# EAGLE library part RJ22?* (library relay-mod)
SMD RELAYS WITH 5GHz CAPABILITIES NAiS Source: http://www.mew-europe.com/.. en_ds_61313_0000.pdf
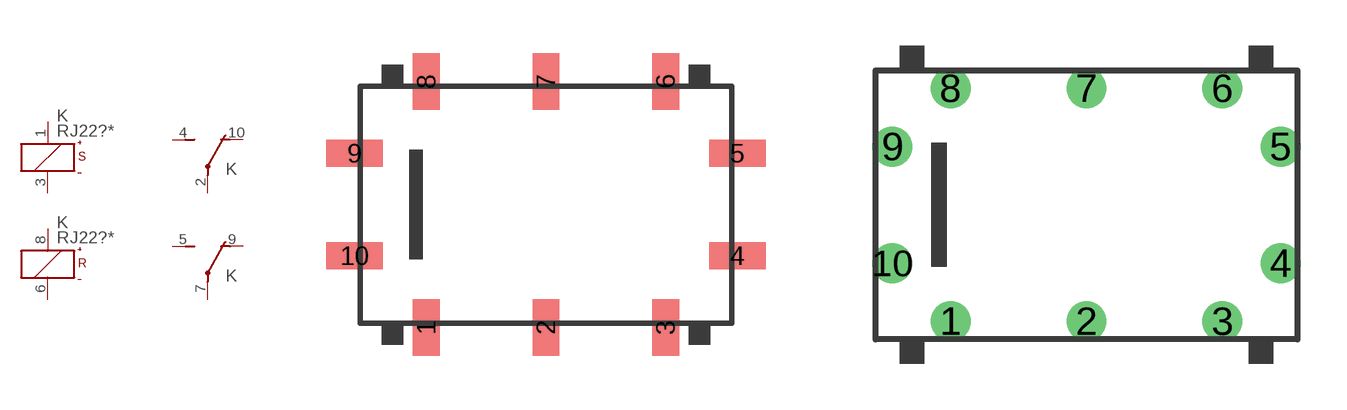
[diagram p104: symbol with the pads of RJ-SMD; footprints RJ-SMD, RJ]

Designator prefix K; gates S=K+-S R=K+-R 1=U 2=U

## RJ22A03 (MPN: ARJ22A03; OC_FARNELL: unknown; OC_NEWARK: 11N2929), RJ22A12 (MPN: ARJ22A12; OC_FARNELL: 9008446; OC_NEWARK: 13P1249), RJ22A24 (MPN: ARJ22A24; OC_FARNELL: unknown; OC_NEWARK: 11N2932), RJ22A4H (MPN: ARJ22A4H; OC_FARNELL: unknown; OC_NEWARK: 13P1250)  [RJ-SMD]
1  S:+  pas
2  1:P  pas
3  S:-  pas
4  1:S  pas
5  2:S  pas
6  R:-  pas
7  2:P  pas
8  R:+  pas
9  2:O  pas
10  1:O  pas

## RJ2203 (MPN: ARJ2203; OC_FARNELL: unknown; OC_NEWARK: 11N2935), RJ2212 (MPN: ARJ2212; OC_FARNELL: unknown; OC_NEWARK: 11N2936), RJ2224 (MPN: ARJ2224; OC_FARNELL: unknown; OC_NEWARK: 11N2937), RJ224H (MPN: ARJ224H; OC_FARNELL: unknown; OC_NEWARK: 11N2938)  [RJ]
Pads as for RJ-SMD

## Footprint RJ-SMD (pad centres in mm)
SMD RELAYS WITH 5GHz CAPABILITIES NAiS Source: http://www.mew-europe.com/.. en_ds_61313_0000.pdf
smd 1 x 2.1: 1 -4.445,-4.572; 2 0,-4.572; 3 4.445,-4.572; 6 4.445,4.572; 7 0,4.572; 8 -4.445,4.572
smd 2.1 x 1: 4 7.112,-1.905; 5 7.112,1.905; 9 -7.112,1.905; 10 -7.112,-1.905

## Footprint RJ (pad centres in mm)
SMD RELAYS WITH 5GHz CAPABILITIES NAiS Source: http://www.mew-europe.com/.. en_ds_61313_0000.pdf
drill 0.8: 1 -4.445,-3.81; 2 0,-3.81; 3 4.445,-3.81; 4 6.35,-1.905; 5 6.35,1.905; 6 4.445,3.81; 7 0,3.81; 8 -4.445,3.81; 9 -6.35,1.905; 10 -6.35,-1.905